# EAGLE library part BUF1900 (library NewSDR)
Texas Instruments Programmabel Voltage Source with Memory
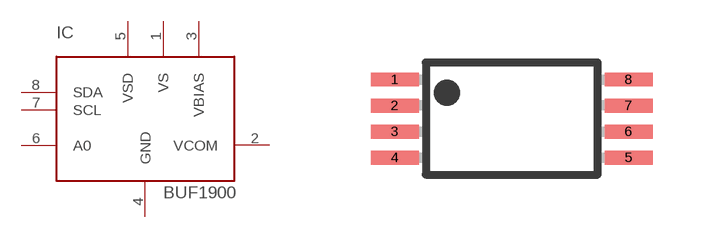
[diagram p59: symbol with the pads of TSSOP8; footprint TSSOP8]

Designator prefix IC

## BUF1900  [TSSOP8]
1  VS  pwr
2  VCOM  pwr
3  VBIAS  pas
4  GND  pwr
5  VSD  pwr
6  A0  in
7  SCL  in
8  SDA  in

## Footprint TSSOP8 (pad centres in mm)
Plastic Small Outline
smd 1.2 x 0.35: 1 -2.925,0.975; 2 -2.925,0.325; 3 -2.925,-0.325; 4 -2.925,-0.975; 5 2.925,-0.975; 6 2.925,-0.325; 7 2.925,0.325; 8 2.925,0.975